# EAGLE library part CONN-RIBBON (library QuantumOptics)
Connector, Ribbon, on 0.1" grid for standard 0.050" ribbon and header.
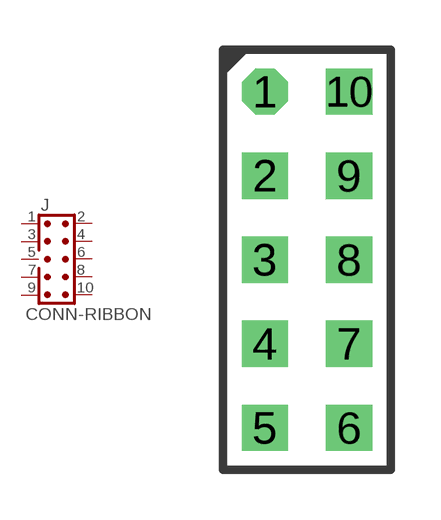
[diagram p16: symbol with the pads of CONN-RIBBON-2X5; footprint CONN-RIBBON-2X5]

Designator prefix J

## CONN-RIBBON-2X5  [CONN-RIBBON-2X5]
1  1  nc
2  2  nc
3  3  nc
4  4  nc
5  5  nc
6  6  nc
7  7  nc
8  8  nc
9  9  nc
10  10  nc

## Footprint CONN-RIBBON-2X5 (pad centres in mm)
Connector, Ribbon, 2 rows of 5, on 0.1" grid, pins numbering like an IC (1 in top left, 10 in top right).
drill 0.889 octagon: 1 -1.27,5.08
drill 0.889 square: 2 -1.27,2.54; 3 -1.27,0; 4 -1.27,-2.54; 5 -1.27,-5.08; 6 1.27,-5.08; 7 1.27,-2.54; 8 1.27,0; 9 1.27,2.54; 10 1.27,5.08